# Altium footprint library TE_CONN_1-2834015-4.PcbLib: 1 footprints
Each footprint in its own frame and in the unit in brackets; x right, y up, seen from the top. Pads: shape width x height; smd on the part's side, far side on the other; paste and mask are expansions set on the pad; w line width, h text height; cw(c..) or ccw(c..) is an arc to the next point about the centre after c.
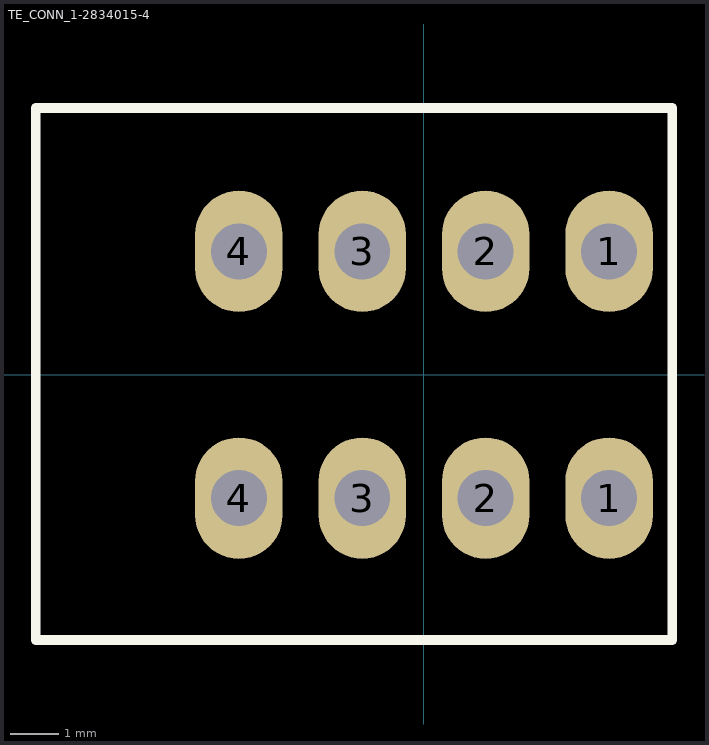
[diagram p0: the footprint, top view; thin cyan lines are the x and y axes]

## TE_CONN_1-2834015-4 [mm]
pads (8):
  oval 1.8x2.5 hole 1.15: 1(3.81,-2.54) 1(3.81,2.54) 2(1.27,-2.54) 2(1.27,2.54) 3(-1.27,-2.54) 3(-1.27,2.54) 4(-3.81,-2.54) 4(-3.81,2.54)
Top Overlay:
  lines w0.2: -7.99,-5.46 -7.99,5.49 5.11,5.49 5.11,-5.46 -7.99,-5.46
3D body "TE_CONN_1-2834015-4.stp": height 13.6, standoff -4.87, extent -8.04,-7.31 5.12,5.49